# Altium footprint library B2B050_40P.PcbLib: 1 footprints
Each footprint in its own frame and in the unit in brackets; x right, y up, seen from the top. Pads: shape width x height; smd on the part's side, far side on the other; paste and mask are expansions set on the pad; w line width, h text height; cw(c..) or ccw(c..) is an arc to the next point about the centre after c.
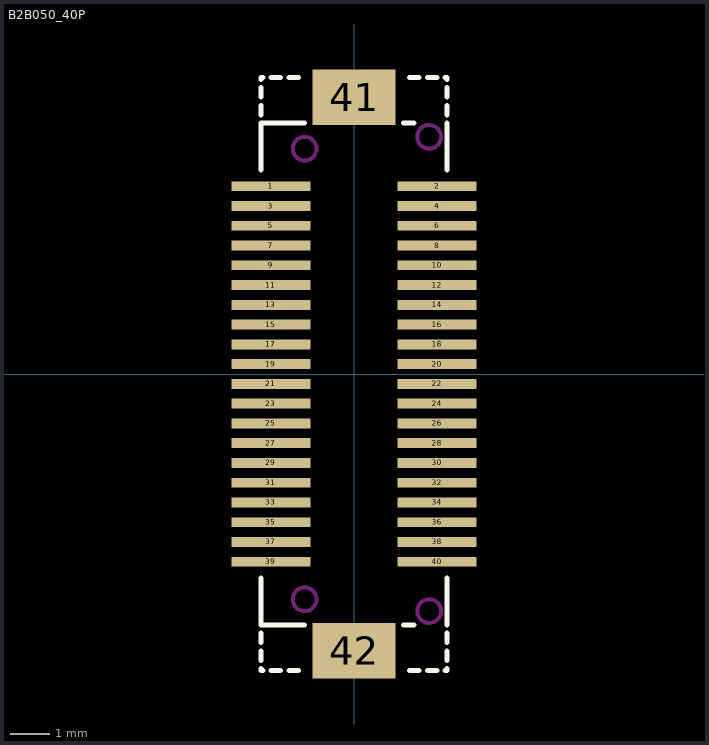
[diagram p0: the footprint, top view; thin cyan lines are the x and y axes]

## B2B050_40P [mm] "DF17#3(**)-30DS-0.5V,DF17#3(**)-30DP-0.5V"
pads (42):
  rect 2x0.25 smd: 1(-2.1,4.75) 2(2.1,4.75) 3(-2.1,4.25) 4(2.1,4.25) 5(-2.1,3.75) 6(2.1,3.75) 7(-2.1,3.25) 8(2.1,3.25) 9(-2.1,2.75) 10(2.1,2.75) 11(-2.1,2.25) 12(2.1,2.25) 13(-2.1,1.75) 14(2.1,1.75) 15(-2.1,1.25) 16(2.1,1.25) 17(-2.1,0.75) 18(2.1,0.75) 19(-2.1,0.25) 20(2.1,0.25) 21(-2.1,-0.25) 22(2.1,-0.25) 23(-2.1,-0.75) 24(2.1,-0.75) 25(-2.1,-1.25) 26(2.1,-1.25) 27(-2.1,-1.75) 28(2.1,-1.75) 29(-2.1,-2.25) 30(2.1,-2.25) 31(-2.1,-2.75) 32(2.1,-2.75) 33(-2.1,-3.25) 34(2.1,-3.25) 35(-2.1,-3.75) 36(2.1,-3.75) 37(-2.1,-4.25) 38(2.1,-4.25) 39(-2.1,-4.75) 40(2.1,-4.75)
  rect 2.1x1.4 smd: 41(0,7) 42(0,-7)
Top Overlay:
  lines w0.127: -2.35,-7.45 -2.35,-7.5 -2.3,-7.5 ; -2.35,-7.25 -2.35,-7.01 ; -2.35,-6.792 -2.35,-6.553 ; -2.35,-5.166 -2.35,-6.35 -1.247,-6.35 ; -2.35,5.166 -2.35,6.35 -1.247,6.35 ; -2.35,6.553 -2.35,6.792 ; -2.35,7.01 -2.35,7.25 ; -2.35,7.45 -2.35,7.5 -2.3,7.5 ; -2.1,-7.5 -1.86,-7.5 ; -2.1,7.5 -1.86,7.5 ; -1.642,-7.5 -1.403,-7.5 ; -1.642,7.5 -1.403,7.5 ; 1.247,-6.35 1.524,-6.35 ; 1.247,6.35 1.524,6.35 ; 1.403,-7.5 1.642,-7.5 ; 1.403,7.5 1.642,7.5 ; 1.86,-7.5 2.1,-7.5 ; 1.86,7.5 2.1,7.5 ; 2.3,-7.5 2.35,-7.5 2.35,-7.45 ; 2.3,7.5 2.35,7.5 2.35,7.45 ; 2.35,-7.25 2.35,-7.01 ; 2.35,-6.792 2.35,-6.553 ; 2.35,-6.35 2.35,-5.166 ; 2.35,5.166 2.35,6.35 ; 2.35,6.553 2.35,6.792 ; 2.35,7.01 2.35,7.25
Keep-Out Layer:
  circle w0.1: c1.9,6 r0.3
  circle w0.1: c1.9,-6 r0.3
  circle w0.1: c-1.25,5.7 r0.3
  circle w0.1: c-1.25,-5.7 r0.3